# EAGLE library part MK20DX128VLH5 (library OMAT_IC)
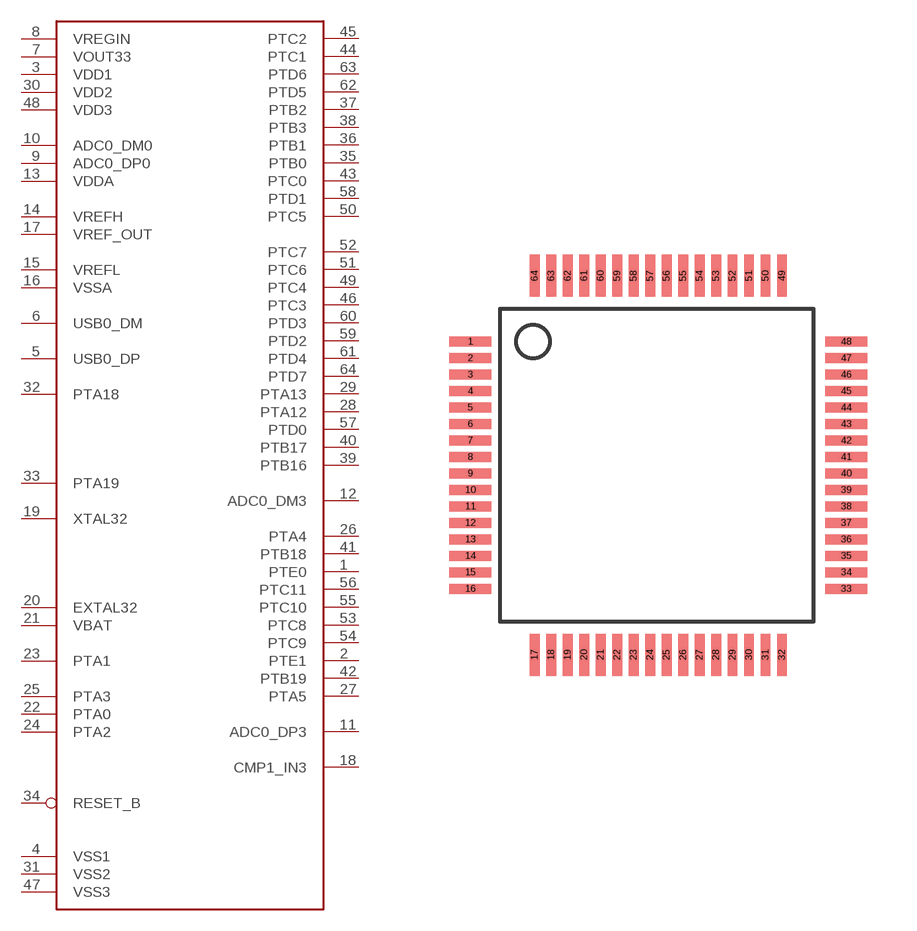
[diagram p0: symbol with the pads of FREESCALE_64_LQFP; footprint FREESCALE_64_LQFP]

Designator prefix D

## MK20DX128VLH5  [FREESCALE_64_LQFP]
1  PTE0
2  PTE1
3  VDD1
4  VSS1
5  USB0_DP
6  USB0_DM
7  VOUT33
8  VREGIN
9  ADC0_DP0
10  ADC0_DM0
11  ADC0_DP3
12  ADC0_DM3
13  VDDA
14  VREFH
15  VREFL
16  VSSA
17  VREF_OUT
18  CMP1_IN3
19  XTAL32
20  EXTAL32
21  VBAT
22  PTA0
23  PTA1
24  PTA2
25  PTA3
26  PTA4
27  PTA5
28  PTA12
29  PTA13
30  VDD2
31  VSS2
32  PTA18
33  PTA19
34  RESET_B
35  PTB0
36  PTB1
37  PTB2
38  PTB3
39  PTB16
40  PTB17
41  PTB18
42  PTB19
43  PTC0
44  PTC1
45  PTC2
46  PTC3
47  VSS3
48  VDD3
49  PTC4
50  PTC5
51  PTC6
52  PTC7
53  PTC8
54  PTC9
55  PTC10
56  PTC11
57  PTD0
58  PTD1
59  PTD2
60  PTD3
61  PTD4
62  PTD5
63  PTD6
64  PTD7

## Footprint FREESCALE_64_LQFP (pad centres in mm)
smd 1.27 x 0.3: 1 -15.9,9; 2 -15.9,8.5; 3 -15.9,8; 4 -15.9,7.5; 5 -15.9,7; 6 -15.9,6.5; 7 -15.9,6; 8 -15.9,5.5; 9 -15.9,5; 10 -15.9,4.5; 11 -15.9,4; 12 -15.9,3.5; 13 -15.9,3; 14 -15.9,2.5; 15 -15.9,2; 16 -15.9,1.5; 33 -4.5,1.5; 34 -4.5,2; 35 -4.5,2.5; 36 -4.5,3; 37 -4.5,3.5; 38 -4.5,4; 39 -4.5,4.5; 40 -4.5,5; 41 -4.5,5.5; 42 -4.5,6; 43 -4.5,6.5; 44 -4.5,7; 45 -4.5,7.5; 46 -4.5,8; 47 -4.5,8.5; 48 -4.5,9
smd 0.3 x 1.27: 17 -13.95,-0.5; 18 -13.45,-0.5; 19 -12.95,-0.5; 20 -12.45,-0.5; 21 -11.95,-0.5; 22 -11.45,-0.5; 23 -10.95,-0.5; 24 -10.45,-0.5; 25 -9.95,-0.5; 26 -9.45,-0.5; 27 -8.95,-0.5; 28 -8.45,-0.5; 29 -7.95,-0.5; 30 -7.45,-0.5; 31 -6.95,-0.5; 32 -6.45,-0.5; 49 -6.45,11; 50 -6.95,11; 51 -7.45,11; 52 -7.95,11; 53 -8.45,11; 54 -8.95,11; 55 -9.45,11; 56 -9.95,11; 57 -10.45,11; 58 -10.95,11; 59 -11.45,11; 60 -11.95,11; 61 -12.45,11; 62 -12.95,11; 63 -13.45,11; 64 -13.95,11